# Altium schematic symbol library Schlib1.SchLib: 21 symbols
Pins are listed as number, name and electrical type; pins without a type are passive.

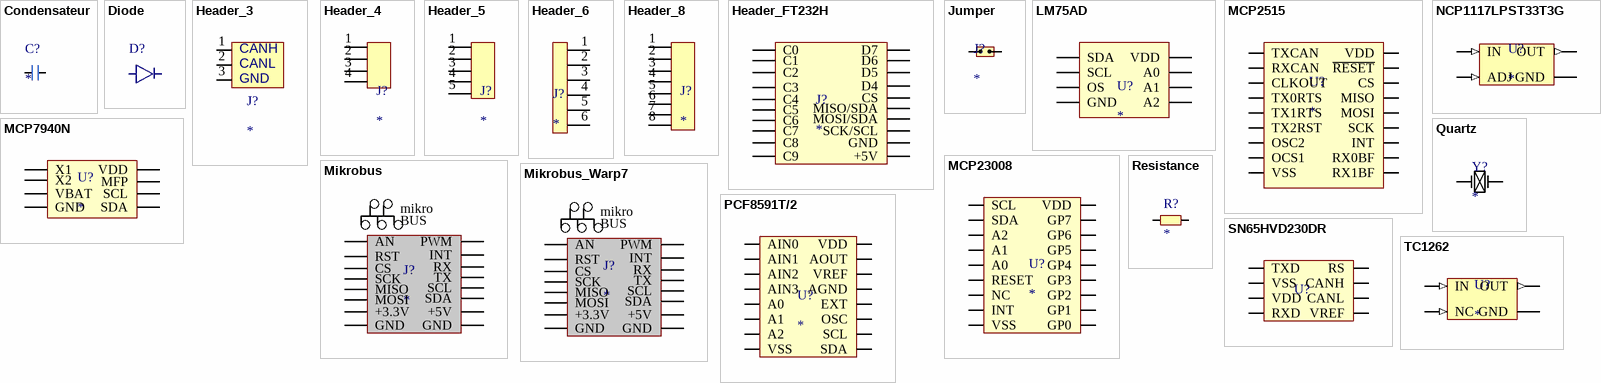
[diagram p0: symbols Condensateur to TC1262]

## Condensateur
designator C?
Condensateur
footprint 0805
pins: 1, 2

## Diode
designator D?  (value not drawn)
led
footprint led
pins: 1, 2

## Header_3
designator J?
footprint Header 3
pins: 1, 2, 3
text: CANH; CANL; GND

## Header_4
designator J?
footprint Header 4
pins: 1, 2, 3, 4

## Header_5
designator J?
footprint Header 5
pins: 1, 2, 3, 4, 5

## Header_6
designator J?
footprint Header 6
pins: 1, 2, 3, 4, 5, 6

## Header_8
designator J?
footprint Header 8
pins: 1, 2, 3, 4, 5, 6, 7, 8

## Header_FT232H
designator J?
footprint Header_FT232H
pins: 1 C9, 2 C8, 3 C7, 4 C6, 5 C5, 6 C4, 7 C3, 8 C2, 9 C1, 10 C0, 11 +5V, 12 GND, 13 SCK/SCL, 14 MOSI/SDA, 15 MISO/SDA, 16 CS, 17 D4, 18 D5, 19 D6, 20 D7

## Jumper
designator J?
footprint Header 2
pins: 1, 2

## LM75AD
designator U?
footprint SOIC 8
pins: 1 SDA, 2 SCL, 3 OS, 4 GND, 5 A2, 6 A1, 7 A0, 8 VDD

## MCP2515
designator U?
footprint SOIC 18
pins: 1 TXCAN, 2 RXCAN, 3 CLKOUT, 4 TX0RTS, 5 TX1RTS, 6 TX2RST, 7 OSC2, 8 OCS1, 9 VSS, 10 RX1BF, 11 RX0BF, 12 INT, 13 SCK, 14 MOSI, 15 MISO, 16 CS, 17 ~{RESET}, 18 VDD

## MCP7940N
designator U?
footprint SOIC 8
pins: 1 X1, 2 X2, 3 VBAT, 4 GND, 5 SDA, 6 SCL, 7 MFP, 8 VDD

## MCP23008
designator U?
footprint SOIC 18
pins: 1 SCL, 2 SDA, 3 A2, 4 A1, 5 A0, 6 RESET, 7 NC, 8 INT, 9 VSS, 10 GP0, 11 GP1, 12 GP2, 13 GP3, 14 GP4, 15 GP5, 16 GP6, 17 GP7, 18 VDD

## Mikrobus
designator J?
footprint Mikrobus
pins: 1 GND, 2 +3.3V, 3 MOSI, 4 MISO, 5 SCK, 6 CS, 7 RST, 8 AN, 9 GND, 10 +5V, 11 SDA, 12 SCL, 13 TX, 14 RX, 15 INT, 16 PWM
text: mikro; BUS

## Mikrobus_Warp7
designator J?
footprint Mikrobus_WaRP7
pins: 1 GND, 2 +3.3V, 3 MOSI, 4 MISO, 5 SCK, 6 CS, 7 RST, 8 AN, 9 GND, 10 +5V, 11 SDA, 12 SCL, 13 TX, 14 RX, 15 INT, 16 PWM
text: mikro; BUS

## NCP1117LPST33T3G
designator U?
footprint SOT-223
pins: 1 ADJ (in), 2 OUT (out), 3 IN (in), 4 GND

## PCF8591T/2
designator U?
footprint SOIC 16
pins: 1 AIN0, 2 AIN1, 3 AIN2, 4 AIN3, 5 A0, 6 A1, 7 A2, 8 VSS, 9 SDA, 10 SCL, 11 OSC, 12 EXT, 13 AGND, 14 VREF, 15 AOUT, 16 VDD

## Quartz
designator Y?
footprint ABS-07
pins: 1, 2

## Resistance
designator R?
footprint 0805
pins: 1, 2

## SN65HVD230DR
designator U?  (value not drawn)
footprint SOIC 8
pins: 1 TXD, 2 VSS, 3 VDD, 4 RXD, 5 VREF, 6 CANL, 7 CANH, 8 RS

## TC1262
designator U?
footprint TC1262 (Regulator 3.3)
pins: 1 IN (in), 2 GND, 3 OUT (out), 4 NC (in)